# Altium footprint library SODFL3516X120N.PcbLib: 1 footprints
Each footprint in its own frame and in the unit in brackets; x right, y up, seen from the top. Pads: shape width x height; smd on the part's side, far side on the other; paste and mask are expansions set on the pad; w line width, h text height; cw(c..) or ccw(c..) is an arc to the next point about the centre after c.
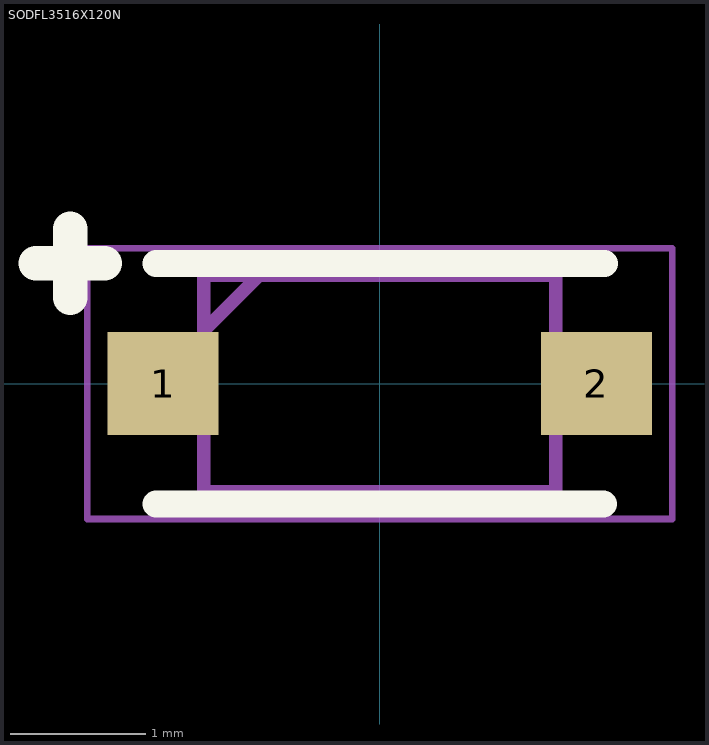
[diagram p0: the footprint, top view; thin cyan lines are the x and y axes]

## SODFL3516X120N [mm]
pads (2):
  rect 0.82x0.76 smd: 1(-1.6,0) 2(1.6,0)
Top Overlay:
  lines w0.2: -1.651,-0.889 1.651,-0.889 ; -1.651,0.889 1.659,0.889
  lines w0.254: -2.54,0.889 -2.032,0.889 ; -2.286,0.635 -2.286,1.143
Assembly Top:
  lines w0.05: -2.16,-1 -2.16,1 2.16,1 2.16,-1 -2.16,-1
  lines w0.1: -1.3,0.39 -0.89,0.8 ; -1.3,-0.8 -1.3,0.8 1.3,0.8 1.3,-0.8 -1.3,-0.8
3D body "step_temp.STEP": height 1.2, standoff 0, extent -1.75,-0.8 1.75,0.8